# Altium footprint library SOP8P65_290X280X110L45X30N.PcbLib: 1 footprints
Each footprint in its own frame and in the unit in brackets; x right, y up, seen from the top. Pads: shape width x height; smd on the part's side, far side on the other; paste and mask are expansions set on the pad; w line width, h text height; cw(c..) or ccw(c..) is an arc to the next point about the centre after c.
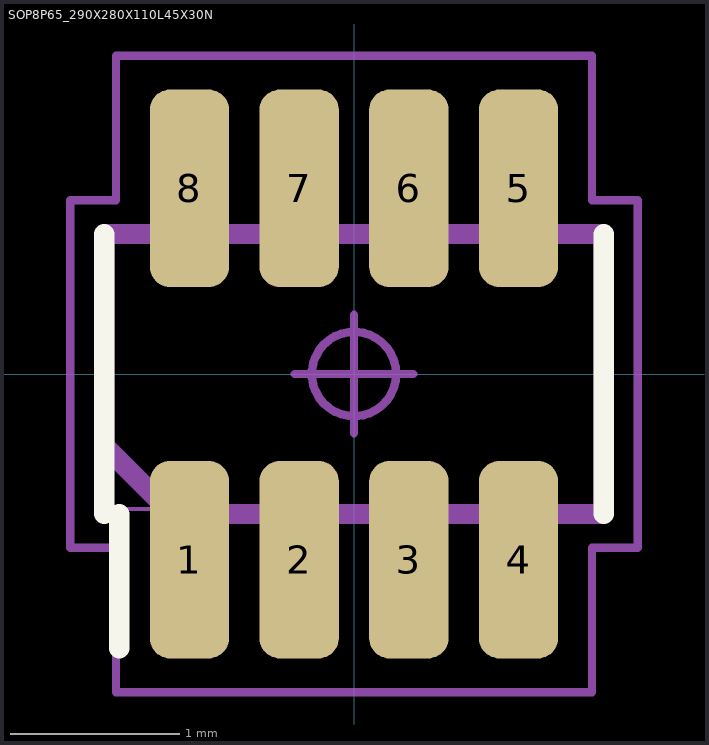
[diagram p0: the footprint, top view; thin cyan lines are the x and y axes]

## SOP8P65_290X280X110L45X30N [mm] "Small Outline Pkg (SOP), 0.65 mm pitch; 8 pin, 2.90 mm L X 1.60 mm W X 1.10 mm H body"
height 1.1
pads (8):
  rrect51% 0.47x1.17 smd: 1(-0.975,-1.1) 2(-0.325,-1.1) 3(0.325,-1.1) 4(0.975,-1.1) 5(0.975,1.1) 6(0.325,1.1) 7(-0.325,1.1) 8(-0.975,1.1)
Top Overlay:
  lines w0.12: -1.48,-0.83 -1.48,0.83 ; -1.39,-1.625 -1.39,-0.83 ; 1.48,-0.83 1.48,0.83
Mechanical 3:
  lines w0.12: -1.48,-0.425 -1.075,-0.83 1.48,-0.83 1.48,0.83 -1.48,0.83 -1.48,-0.425
Mechanical 5:
  lines w0.025: -1.45,-0.8 1.45,-0.8 1.45,0.8 -1.45,0.8 -1.45,-0.8 ; -1.125,-1.4 -1.125,-0.95 -0.825,-0.95 -0.825,-1.4 -1.125,-1.4 ; -1.125,0.95 -1.125,1.4 -0.825,1.4 -0.825,0.95 -1.125,0.95 ; -0.475,-1.4 -0.475,-0.95 -0.175,-0.95 -0.175,-1.4 -0.475,-1.4 ; -0.475,0.95 -0.475,1.4 -0.175,1.4 -0.175,0.95 -0.475,0.95 ; 0.175,-1.4 0.175,-0.95 0.475,-0.95 0.475,-1.4 0.175,-1.4 ; 0.175,0.95 0.175,1.4 0.475,1.4 0.475,0.95 0.175,0.95 ; 0.825,-1.4 0.825,-0.95 1.125,-0.95 1.125,-1.4 0.825,-1.4 ; 0.825,0.95 0.825,1.4 1.125,1.4 1.125,0.95 0.825,0.95
Mechanical 7:
  circle w0.05: c0,0 r0.25
  lines w0.05: -0.35,0 0.35,0 ; 0,-0.35 0,0.35 ; -1.68,-1.03 -1.41,-1.03 -1.41,-1.885 1.41,-1.885 1.41,-1.03 1.68,-1.03 1.68,1.03 1.41,1.03 1.41,1.885 -1.41,1.885 -1.41,1.03 -1.68,1.03 -1.68,-1.03
Mechanical 9:
  text "'.Designator'" at -5.588,-0.635 h1
3D body "SOP8P65_290X280X110L45X30.STEP": height 1.1, standoff 0, extent -1.45,-1.4 1.45,1.4
3D body: height 1, standoff 0, extent -1.68,-1.885 1.68,1.885